# Altium schematic symbol library Memory.SchLib: 3 symbols
Pins are listed as number, name and electrical type; pins without a type are passive.

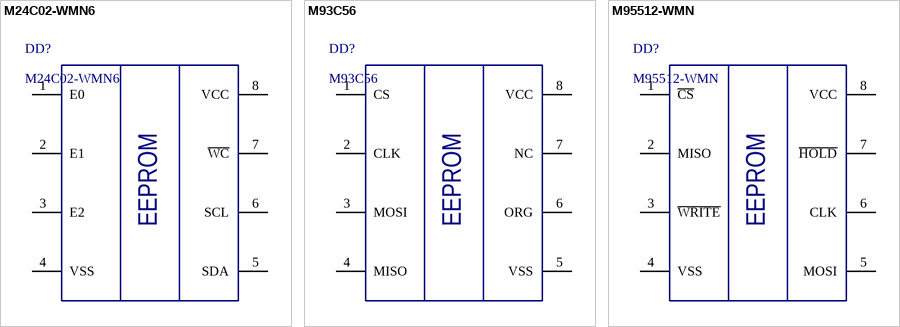
[diagram p0: symbols M24C02-WMN6 to M95512-WMN]

## M24C02-WMN6
designator DD?
ComponentDescription: M24C02-WMN6
footprint SOIC127P600X175-8N (SOIC, 8-Leads, Body 4,90x3,90mm, Pitch 1,27mm, IPC Medium Density)
pins: 1 E0, 2 E1, 3 E2, 4 VSS, 5 SDA, 6 SCL, 7 ~{WC}, 8 VCC
text: EEPROM

## M93C56
designator DD?
ComponentDescription: M93C56
footprint SOIC127P600X175-8N (SOIC, 8-Leads, Body 4,90x3,90mm, Pitch 1,27mm, IPC Medium Density)
pins: 1 CS, 2 CLK, 3 MOSI, 4 MISO, 5 VSS, 6 ORG, 7 NC, 8 VCC
text: EEPROM

## M95512-WMN
designator DD?
ComponentDescription: M95512-WMN
footprint SOIC127P600X175-8N (SOIC, 8-Leads, Body 4,90x3,90mm, Pitch 1,27mm, IPC Medium Density)
pins: 1 ~{CS}, 2 MISO, 3 ~{WRITE}, 4 VSS, 5 MOSI, 6 CLK, 7 ~{HOLD}, 8 VCC
text: EEPROM